# Altium footprint library Pattern No3d 20090609.PcbLib: 323 footprints (part 3 of 22)
Each footprint in its own frame and in the unit in brackets; x right, y up, seen from the top. Pads: shape width x height; smd on the part's side, far side on the other; paste and mask are expansions set on the pad; w line width, h text height; cw(c..) or ccw(c..) is an arc to the next point about the centre after c.
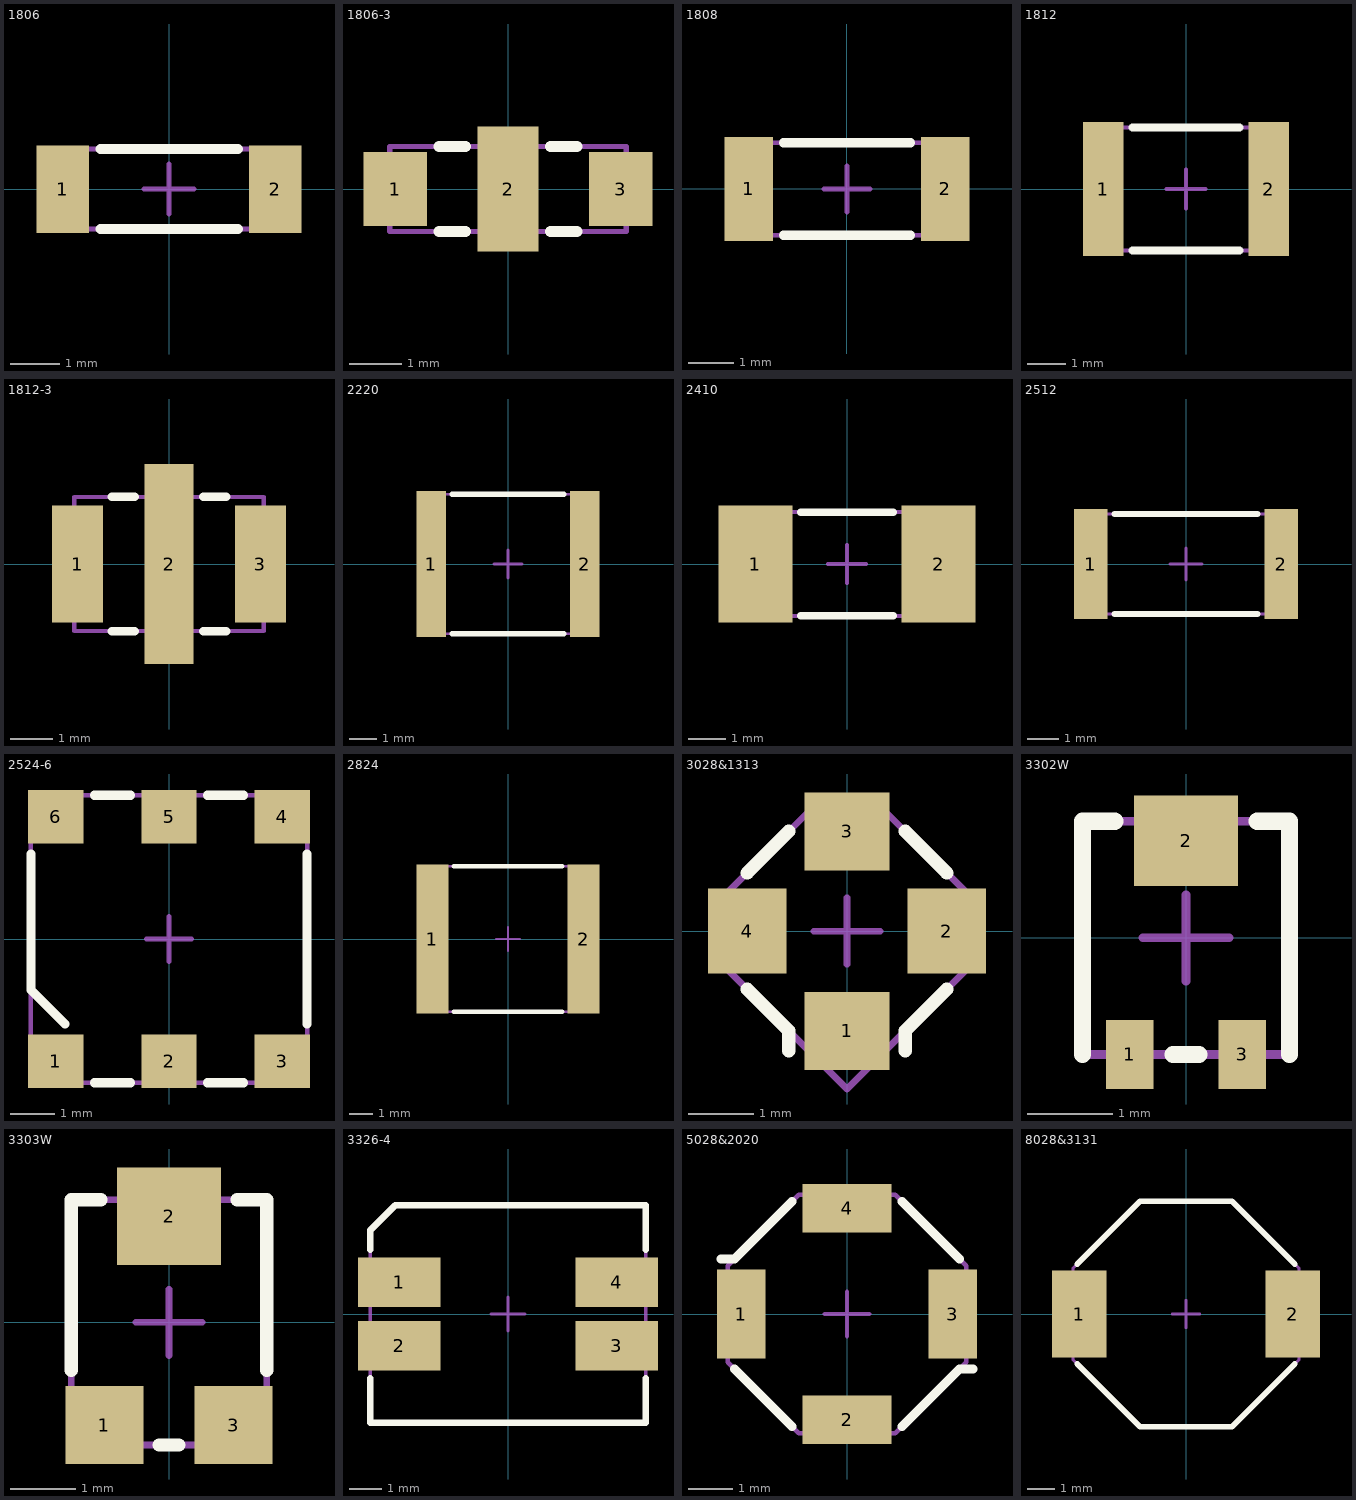
[diagram p2: the footprints below, top view; thin cyan lines are the x and y axes]

## 1806 [mil] "http://www.murata.com/catalog/c31e.pdf (BLM41P Series)"
pads (2):
  rect 42x70 smd mask+4: 1(-85,0) 2(85,0)
Top Overlay:
  lines w8: -55,-32 55,-32 ; -55,32 55,32
Mechanical 1:
  lines w4: -89,-32 -89,32 89,32 89,-32 -89,-32
Mechanical 15:
  lines w4: -20,0 20,0 ; 0,-20 0,20

## 1806-3 [mil] "http://www.murata.com/catalog/c31e.pdf (NFM41C Series)"
pads (3):
  rect 48x56 smd mask+4: 1(-85,0) 3(85,0)
  rect 46x94 smd mask+4: 2(0,0)
Top Overlay:
  lines w8: -52,-32 -32,-32 ; -52,32 -32,32 ; 32,-32 52,-32 ; 32,32 52,32
Mechanical 1:
  lines w4: -89,-32 -89,32 89,32 89,-32 -89,-32
Mechanical 15:
  lines w4: -20,0 20,0 ; 0,-20 0,20

## 1808 [mil] "http://www.vishay.com/docs/45047/vjomdnp0.pdf (Case 1808)"
pads (2):
  rect 42x90 smd mask+4: 1(-85,0) 2(85,0)
Top Overlay:
  lines w8: -55,-40 55,-40 ; -55,40 55,40
Mechanical 1:
  lines w4: -89,-40 -89,40 89,40 89,-40 -89,-40
Mechanical 15:
  lines w4: -20,0 20,0 ; 0,-20 0,20

## 1812 [mil] "http://www.bourns.com/data/global/pdfs/bourns_icsg.pdf (CF453215 Series)"
pads (2):
  rect 42x138 smd mask+4: 1(-85,0) 2(85,0)
Top Overlay:
  lines w8: -55,-63 55,-63 ; -55,63 55,63
Mechanical 1:
  lines w4: -89,-63 89,-63 89,63 -89,63 -89,-63
Mechanical 15:
  lines w4: -20,0 20,0 ; 0,-20 0,20

## 1812-3 [mil] "http://www.syfer.com/category_docs/filtsmx2y.pdf"
pads (3):
  rect 48x110 smd mask+4: 1(-86,0) 3(86,0)
  rect 46x188 smd mask+4: 2(0,0)
Top Overlay:
  lines w8: -54,-63 -32,-63 ; -54,63 -32,63 ; 32,-63 54,-63 ; 32,63 54,63
Mechanical 1:
  lines w4: -89,-63 -89,63 89,63 89,-63 -89,-63
Mechanical 15:
  lines w4: -20,0 20,0 ; 0,-20 0,20

## 2220 [mil] "http://www.vishay.com/docs/45047/vjomdnp0.pdf (Case 2220)"
pads (2):
  rect 42x208 smd mask+4: 1(-109,0) 2(109,0)
Top Overlay:
  lines w8: -79,-99 79,-99 ; -79,99 79,99
Mechanical 1:
  lines w4: -112,-99 112,-99 112,99 -112,99 -112,-99
Mechanical 15:
  lines w4: -20,0 20,0 ; 0,-20 0,20

## 2410 [mil] "http://www.littelfuse.com/data/en/Data_Sheets/452_454.pdf"
pads (2):
  rect 78x124 smd mask+4: 1(-97,0) 2(97,0)
Top Overlay:
  lines w8: -49,-55 49,-55 ; -49,55 49,55
Mechanical 1:
  lines w4: -122,-55 -122,55 122,55 122,-55 -122,-55
Mechanical 15:
  lines w4: -20,0 20,0 ; 0,-20 0,20

## 2512 [mil] "http://www.vishay.com/docs/60031/m.pdf (Case 2512)"
pads (2):
  rect 42x138 smd mask+4: 1(-120,0) 2(120,0)
Top Overlay:
  lines w8: -90,-63 90,-63 ; -90,63 90,63
Mechanical 1:
  lines w4: -124,-63 -124,63 124,63 124,-63 -124,-63
Mechanical 15:
  lines w4: -20,0 20,0 ; 0,-20 0,20

## 2524-6 [mil] "http://www.coilcraft.com/pdfs/ttwb.pdf"
pads (6):
  rect 49x47 smd mask+4: 1(-100,-108) 2(0,-108) 3(100,-108) 4(100,108) 5(0,108) 6(-100,108)
Top Overlay:
  lines w8: -122,75 -122,-45 -92,-75 ; -66,-127 -34,-127 ; -66,127 -34,127 ; 34,-127 66,-127 ; 34,127 66,127 ; 122,-75 122,75
Mechanical 1:
  lines w4: -122,-97 -92,-127 122,-127 122,127 -122,127 -122,-97
Mechanical 15:
  lines w4: -20,0 20,0 ; 0,-20 0,20

## 2824 [mil] "http://www.avx.com/docs/Catalogs/filmchp.pdf (Case 2824)"
pads (2):
  rect 55x255 smd mask+4: 1(-130,0) 2(130,0)
Top Overlay:
  lines w8: -93,-125 93,-125 ; -93,125 93,125
Mechanical 1:
  lines w4: -149,-125 149,-125 149,125 -149,125 -149,-125
Mechanical 15:
  lines w4: -20,0 20,0 ; 0,-20 0,20

## 3028&1313 [mil] "http://www.bourns.com/data/global/pdfs/bourns_icsg.pdf (SRU3028 Series)"
pads (4):
  rect 51x47 smd mask+4: 1(0,-60) 3(0,60)
  rect 47x51 smd mask+4: 2(60,0) 4(-60,0)
Top Overlay:
  lines w8: -60,-35 -35,-60 -35,-72 ; -60,35 -35,60 ; 35,-72 35,-60 60,-35 ; 35,60 60,35
Mechanical 1:
  lines w4: -73,-22 0,-95 73,-22 73,22 22,73 -22,73 -73,22 -73,-22
Mechanical 15:
  lines w4: -20,0 20,0 ; 0,-20 0,20

## 3302W [mil] "http://www.bourns.com/data/global/pdfs/3302.pdf"
pads (3):
  rect 22x32 smd mask+4: 1(-26,-54) 3(26,-54)
  rect 48x42 smd mask+4: 2(0,45)
Top Overlay:
  lines w8: -48,-54 -48,54 -33,54 ; -6,-54 6,-54 ; 33,54 48,54 48,-54
Mechanical 1:
  lines w4: -48,-54 48,-54 48,54 -48,54 -48,-54
Mechanical 15:
  lines w4: -20,0 20,0 ; 0,-20 0,20

## 3303W [mil] "http://www.bourns.com/data/global/pdfs/3303.pdf (3303W)"
pads (3):
  rect 47x47 smd mask+4: 1(-39,-62) 3(39,-62)
  rect 63x59 smd mask+4: 2(0,64)
Top Overlay:
  lines w8: -59,-29 -59,74 -41,74 ; -6,-74 6,-74 ; 41,74 59,74 59,-29
Mechanical 1:
  lines w4: -59,-74 59,-74 59,74 -59,74 -59,-74
Mechanical 15:
  lines w4: -20,0 20,0 ; 0,-20 0,20

## 3326-4 [mil] "http://ww2.pulseeng.com/products/datasheets/P522.pdf (Volta 2)"
pads (4):
  rect 99x59 smd mask+4: 1(-130,38) 2(-130,-38) 3(130,-38) 4(130,38)
Top Overlay:
  lines w8: -165,-77 -165,-130 165,-130 165,-77 ; -165,77 -165,100 -135,130 165,130 165,77
Mechanical 1:
  lines w4: -165,-130 -165,100 -135,130 165,130 165,-130 -165,-130
Mechanical 15:
  lines w4: -20,0 20,0 ; 0,-20 0,20

## 5028&2020 [mil] "http://www.bourns.com/data/global/pdfs/bourns_icsg.pdf (SRU5028 Series)"
pads (4):
  rect 43x79 smd mask+4: 1(-94,0) 3(94,0)
  rect 79x43 smd mask+4: 2(0,-94) 4(0,94)
Top Overlay:
  lines w8: -112,49 -100,49 -49,100 ; -100,-49 -49,-100 ; 49,-100 100,-49 112,-49 ; 49,100 100,49
Mechanical 1:
  lines w4: -106,-43 -43,-106 43,-106 106,-43 106,43 43,106 -43,106 -106,43 -106,-43
Mechanical 15:
  lines w4: -20,0 20,0 ; 0,-20 0,20

## 8028&3131 [mil] "http://www.bourns.com/data/global/pdfs/bourns_icsg.pdf (SRU8028 Series)"
pads (2):
  rect 79x125 smd mask+4: 1(-154,0) 2(154,0)
Top Overlay:
  lines w8: -157,-72 -66,-163 66,-163 157,-72 ; -157,72 -66,163 66,163 157,72
Mechanical 1:
  lines w4: -163,-66 -66,-163 66,-163 163,-66 163,66 66,163 -66,163 -163,66 -163,-66
Mechanical 15:
  lines w4: -20,0 20,0 ; 0,-20 0,20